# Altium schematic symbol library LNJ337W83RA.Schlib: 1 symbol
Pins are listed as number, name and electrical type; pins without a type are passive.

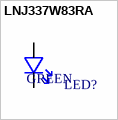
[diagram p0: symbol LNJ337W83RA]

## LNJ337W83RA
designator LED?, comment GREEN
LED SM 0603 GREEN 1V95 FWD VOLTAGE
pins: 1, 2